# EAGLE library part TRANSCEIVER-XTR117 (library transceiver-burrbrown)
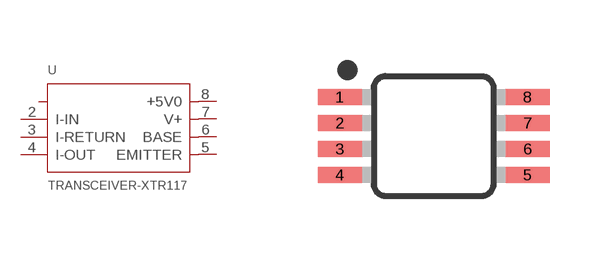
[diagram p0: symbol with the pads of MSOP8-0.65-3X3MM; footprint MSOP8-0.65-3X3MM]

Designator prefix U

## TRANSCEIVER-XTR117  [MSOP8-0.65-3X3MM]
2  I-IN  in
3  I-RETURN  in
4  I-OUT  out
5  EMITTER  in
6  BASE  out
7  V+  in
8  +5V0  nc

## Footprint MSOP8-0.65-3X3MM (pad centres in mm)
8M, 8-Lead, 0.118" Wide, Miniature Small Outline Package MSOP 8M-Package doc1097.pdf
smd 1.1 x 0.4: 1 -2.35,0.975; 2 -2.35,0.325; 3 -2.35,-0.325; 4 -2.35,-0.975; 5 2.35,-0.975; 6 2.35,-0.325; 7 2.35,0.325; 8 2.35,0.975